# EAGLE library part MC74HC125A (library custom)
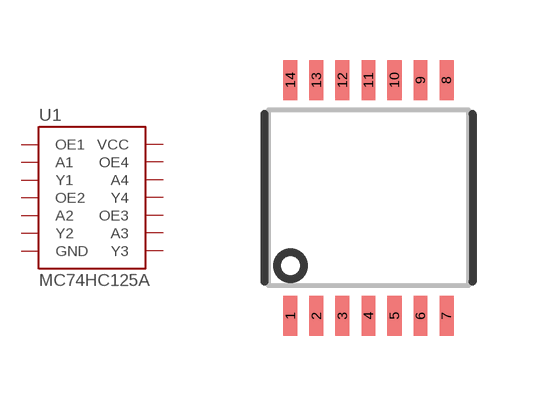
[diagram p151: symbol with the pads of 14-TSSOP; footprint 14-TSSOP]

Designator prefix U1

## MC74HC125A  [14-TSSOP]
1  OE1
2  A1
3  Y1
4  OE2
5  A2
6  Y2
7  GND
8  Y3
9  A3
10  OE3
11  Y4
12  A4
13  OE4
14  VCC

## Footprint 14-TSSOP (pad centres in mm)
smd 0.35 x 1: 1 -1.95,-2.95; 2 -1.3,-2.95; 3 -0.65,-2.95; 4 0,-2.95; 5 0.65,-2.95; 6 1.3,-2.95; 7 1.95,-2.95; 8 1.95,2.95; 9 1.3,2.95; 10 0.65,2.95; 11 0,2.95; 12 -0.65,2.95; 13 -1.3,2.95; 14 -1.95,2.95